# Altium schematic symbol library PNP-DARL.SchLib: 1 symbol
Pins are listed as number, name and electrical type; pins without a type are passive.

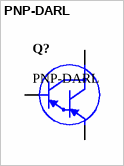
[diagram p0: symbol PNP-DARL]

## PNP-DARL
designator Q?
pins: 1 B, 2 C, 3 E